# Altium integrated library Transistors.IntLib: 15 symbols
Pins are listed as number, name and electrical type; pins without a type are passive.

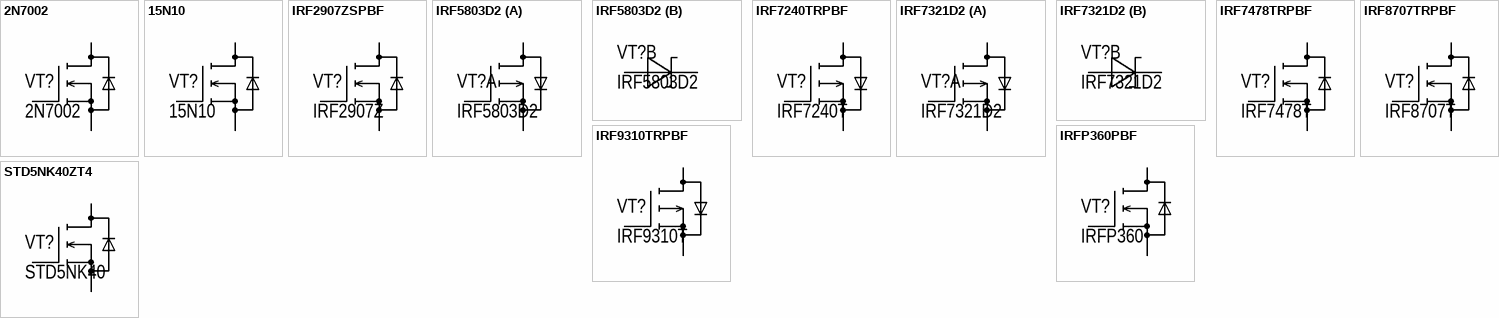
[diagram p0: symbols 2N7002 to STD5NK40ZT4]

## 2N7002
designator VT?
MOSFET N-Channel 60 V 280mA (Ta) 350mW (Ta) Surface Mount SOT-23-3 (TO-236); Manufacture: Diotec Semiconductor; Name: Транзистор MOSFET; Case: SO-8; HelpURL: https://www.digikey.com/en/products/detail/diotec-semiconductor/2N7002/13575376; Value: 2N7002; Model: 2N7002
footprint SOT-23-3 (TO-236)
pins: 1 G, 2 S, 3 D

## 15N10
designator VT?
MOSFET N-Channel 100 V 15A (Tc) 55W (Tc) Surface Mount TO-252 (DPAK); Manufacture: UMW; Name: Транзистор MOSFET; Case: TO-252 (DPAK); HelpURL: https://www.digikey.com/en/products/detail/umw/15N10/16705879; Value: 15N10; Model: 15N10
footprint TO-252
pins: 1 G, 2 D, 3 S

## IRF2907ZSPBF
designator VT?, comment IRF2907Z
MOSFET N-Channel 75 V 160A (Tc) 300W (Tc) Surface Mount D2PAK; Manufacture: Infineon Technologies; Model: IRF2907ZSPBF; Name: Транзистор MOSFET; Case: TO-263-3, D²Pak (2 Leads + Tab), TO-263AB; HelpURL: https://www.digikey.com/en/products/detail/infineon-technologies/IRF2907ZSPBF/11534045; Value: IRF2907Z
footprint D2PAK
footprint TO-220-3
footprint TO-262-3
footprint TO-220-3 + SK29-25S
pins: 1 G, 2 D, 3 S

## IRF5803D2
designator VT?
MOSFET P-Channel 40 V 3.4A (Ta) 2W (Ta) Surface Mount 8-SO; Manufacture: Infineon Technologies; Name: Транзистор MOSFET + диод Шоттки; Case: SO-8; HelpURL: https://www.digikey.com/en/products/detail/infineon-technologies/IRF5803D2/446641; Value: IRF5803D2; Model: IRF5803D2
footprint IRF7321D (SO-8)
part A pins: 1 G, 2 D, 3 S
part B pins: 4 A, 5 C

## IRF7240TRPBF
designator VT?, comment IRF7240T
MOSFET P-Channel 40 V 10.5A (Ta) 2.5W (Ta) Surface Mount 8-SO; Manufacture: Infineon Technologies; Model: IRF7240TRPBF; Name: Транзистор MOSFET; Case: SO-8; HelpURL: https://www.digikey.com/en/products/detail/infineon-technologies/IRF7240TRPBF/1928501?s=N4IgTCBcDaIJICUBiB2MAWADAFQQBQCEkQBdAXyA; Value: IRF7240T
footprint IRF9310 (SO-8)
pins: 1 G, 2 D, 3 S

## IRF7321D2
designator VT?
MOSFET P-Channel 30 V 4.7A (Ta) 2W (Ta) Surface Mount 8-SO; Manufacture: Infineon Technologies; Name: Транзистор MOSFET + диод Шоттки; Case: SO-8; HelpURL: https://www.digikey.com/en/products/detail/infineon-technologies/IRF7321D2/352243; Value: IRF7321D2; Model: IRF7321D2
footprint IRF7321D (SO-8)
part A pins: 1 G, 2 D, 3 S
part B pins: 4 A, 5 C

## IRF7478TRPBF
designator VT?, comment IRF7478T
MOSFET N-Channel 60 V 7A (Ta) 2.5W (Ta) Surface Mount 8-SO; Manufacture: Infineon Technologies; Model: IRF7478TRPBF; Name: Транзистор MOSFET; Case: SO-8; HelpURL: https://www.digikey.com/en/products/detail/infineon-technologies/IRF7478TRPBF/811466; Value: IRF7478T
footprint IRF9310 (SO-8)
pins: 1 G, 2 D, 3 S

## IRF8707TRPBF
designator VT?, comment IRF8707T
MOSFET N-Channel 30 V 11A (Ta) 2.5W (Ta) Surface Mount 8-SO; Manufacture: Infineon Technologies; Model: IRF8707TRPBF; Name: Транзистор MOSFET; Case: SO-8; HelpURL: https://www.digikey.com/en/products/detail/infineon-technologies/IRF8707TRPBF/1925376; Value: IRF8707T
footprint IRF9310 (SO-8)
pins: 1 G, 2 D, 3 S

## IRF9310TRPBF
designator VT?, comment IRF9310T
MOSFET P-Channel 30 V 20A (Tc) 2.5W (Ta) Surface Mount 8-SO; Manufacture: Infineon Technologies; Model: IRF9310TRPBF; Name: Транзистор MOSFET; Case: SO-8; HelpURL: https://www.digikey.com/en/products/detail/infineon-technologies/IRF9310TRPBF/2202219?s=N4IgTCBcDaIJICUBiBOAzARgAwBUEAUAhJAAhAF0BfIA; Value: IRF9310T
footprint IRF9310 (SO-8)
pins: 1 G, 2 D, 3 S

## IRFP360PBF
designator VT?, comment IRFP360
MOSFET N-Channel 400 V 23A (Tc) 280W (Tc) Through Hole TO-247AC; Manufacture: Vishay Siliconix; Model: IRFP360PBF; Name: Транзистор MOSFET; Case: TO-247-3; HelpURL: https://www.digikey.com/en/products/detail/vishay-siliconix/IRFP360PBF/811585?s=N4IgTCBcDaIJYCcBmAHAzANgAwoEZJAF0BfIA; Value: IRFP360
footprint TO-247-3 AC
footprint TO-247-3 AC + SK-437-35-STS
pins: 1 G, 2 D, 3 S

## STD5NK40ZT4
designator VT?, comment STD5NK40
MOSFET N-Channel 400 V 3A (Tc) 45W (Tc) Surface Mount DPAK; Manufacture: STMicroelectronics; Model: STD5NK40ZT4; Name: Транзистор MOSFET; Case: TO-252 (DPAK); HelpURL: https://www.digikey.com/en/products/detail/stmicroelectronics/STD5NK40ZT4/603502?s=N4IgTCBcDaIM4BcAmBWAdgawCwAYBeCWIAugL5A; Value: STD5NK40
footprint TO-252
pins: 1 G, 2 D, 3 S


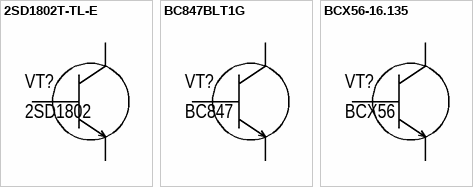
[diagram p1: symbols 2SD1802T-TL-E to BCX56-16.135]

## 2SD1802T-TL-E
designator VT?, comment 2SD1802
Bipolar (BJT) Transistor NPN 50 V 3 A 150MHz 1 W Surface Mount TP-FA; Manufacture: onsemi; Model: 2SD1802T-TL-E; Name: Транзистор биполярный; Case: TO-252 (DPAK); HelpURL: https://www.digikey.com/en/products/detail/onsemi/2SD1802T-TL-E/2748034; Value: 2SD1802
footprint TO-252
pins: 1 B, 2 C, 3 E

## BC847BLT1G
designator VT?, comment BC847
TRANS NPN 45V 100MA SOT23-3; Manufacture: ON Semiconductor; Model: BC847BLT1G; Name: Транзистор биполярный; Case: SOT-23-3 (TO-236); HelpURL: https://www.digikey.com/en/products/detail/on-semiconductor/BC847BLT1G/918344; Value: BC847
footprint SOT-23-3 (TO-236)
pins: 1 B, 2 E, 3 C

## BCX56-16.135
designator VT?, comment BCX56
Bipolar (BJT) Transistor NPN 80 V 1 A 180MHz 500 mW Surface Mount SOT-89; Manufacture: NXP USA Inc.; Model: BCX56-16115; Name: Транзистор биполярный; Case: SOT-89; HelpURL: https://www.digikey.com/en/products/detail/nxp-usa-inc/bcx56-16115/13429942; Value: BCX56
footprint SOT-89 Wave
footprint SOT-89 Reflow
pins: 1 E, 2 C, 3 B


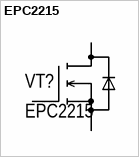
[diagram p2: symbol EPC2215]

## EPC2215
designator VT?
N-Channel 200 V 32A (Ta) - Surface Mount Die; Manufacture: EPC; Name: Транзистор; HelpURL: https://www.digikey.com/en/products/detail/epc/EPC2215/9960320; Model: EPC2215; Case: Die Size: 4.6 mm x 1.6 mm; Value: EPC2215
footprint Die Size: 4.6 mm x 1.6 mm
pins: 1 G, 2 D, 3 S